# EAGLE library part LT1762-ADJ (library linear-technology)
LDO REGULATOR 150mA, Low Noise, Micropower
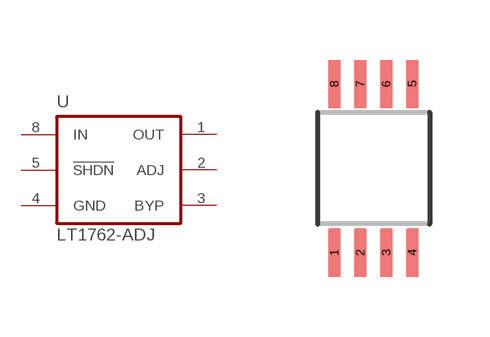
[diagram p57: symbol with the pads of MSOP08; footprint MSOP08]

Designator prefix U

## LT1762-ADJ (P1I: o)  [MSOP08]
1  OUT
2  ADJ
3  BYP
4  GND
5  !SHDN!
8  IN

## Footprint MSOP08 (pad centres in mm)
Mini Small Outline Package
smd 0.3 x 1.2: 1 -0.976,-2.113; 2 -0.326,-2.113; 3 0.324,-2.113; 4 0.974,-2.113; 5 0.974,2.112; 6 0.324,2.112; 7 -0.326,2.112; 8 -0.976,2.112